# EAGLE library part 450-0178C (library 450-0178C)
LAIRD TECHNOLOGIES - 450-0178C - SABLE-X-R2 MODULE, EXTERNAL ANTENNA PORT Source: Datasheet <https://www.lsr.com/downloads/products/330-0237.pdf>
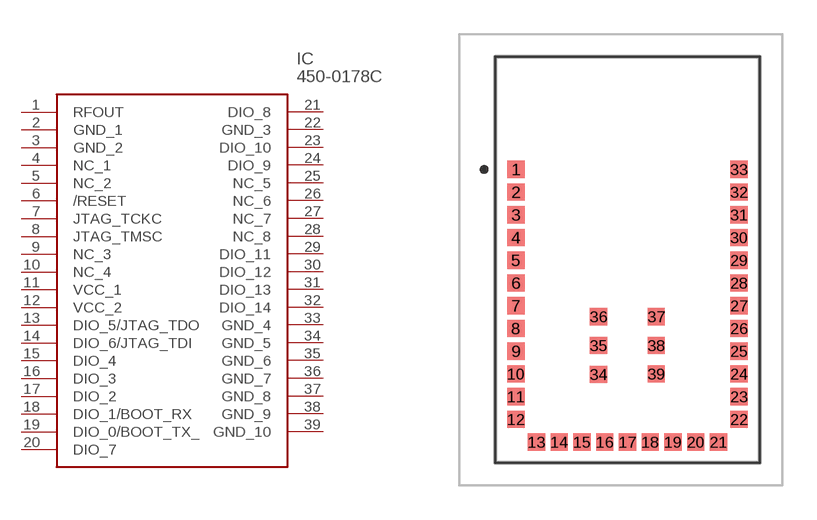
[diagram p0: symbol with the pads of 4500178C; footprint 4500178C]

Designator prefix IC

## 450-0178C (Description: LAIRD TECHNOLOGIES - 450-0178C - SABLE-X-R2 MODULE, EXTERNAL ANTENNA PORT; Height: 2mm; Manufacturer_Name: Laird Technologies; Manufacturer_Part_Number: 450-0178C; Mouser_Part_Number: 239-450-0178C; Mouser_Price-Stock: https://www.mouser.com/Search/Refine.aspx?Keyword=239-450-0178C)  [4500178C]
1  RFOUT
2  GND_1
3  GND_2
4  NC_1
5  NC_2
6  /RESET
7  JTAG_TCKC
8  JTAG_TMSC
9  NC_3
10  NC_4
11  VCC_1
12  VCC_2
13  DIO_5/JTAG_TDO
14  DIO_6/JTAG_TDI
15  DIO_4
16  DIO_3
17  DIO_2
18  DIO_1/BOOT_RX
19  DIO_0/BOOT_TX_
20  DIO_7
21  DIO_8
22  GND_3
23  DIO_10
24  DIO_9
25  NC_5
26  NC_6
27  NC_7
28  NC_8
29  DIO_11
30  DIO_12
31  DIO_13
32  DIO_14
33  GND_4
34  GND_5
35  GND_6
36  GND_7
37  GND_8
38  GND_9
39  GND_10

## Footprint 4500178C (pad centres in mm)
SABLE-X-R2
smd 0.76 x 0.76: 1 -4.905,12.91; 2 -4.905,11.91; 3 -4.905,10.91; 4 -4.905,9.91; 5 -4.905,8.91; 6 -4.905,7.91; 7 -4.905,6.91; 8 -4.905,5.91; 9 -4.905,4.91; 10 -4.905,3.91; 11 -4.905,2.91; 12 -4.905,1.91; 13 -4,0.91; 14 -3,0.91; 15 -2,0.91; 16 -1,0.91; 17 0,0.91; 18 1,0.91; 19 2,0.91; 20 3,0.91; 21 4,0.91; 22 4.905,1.91; 23 4.905,2.91; 24 4.905,3.91; 25 4.905,4.91; 26 4.905,5.91; 27 4.905,6.91; 28 4.905,7.91; 29 4.905,8.91; 30 4.905,9.91; 31 4.905,10.91; 32 4.905,11.91; 33 4.905,12.91; 34 -1.27,3.89; 35 -1.27,5.16; 36 -1.27,6.43; 37 1.27,6.43; 38 1.27,5.16; 39 1.27,3.91